# Altium footprint library PCB - CONNECTOR - CUI - CUI SJ-43514.PcbLib: 1 footprints
Each footprint in its own frame and in the unit in brackets; x right, y up, seen from the top. Pads: shape width x height; smd on the part's side, far side on the other; paste and mask are expansions set on the pad; w line width, h text height; cw(c..) or ccw(c..) is an arc to the next point about the centre after c.
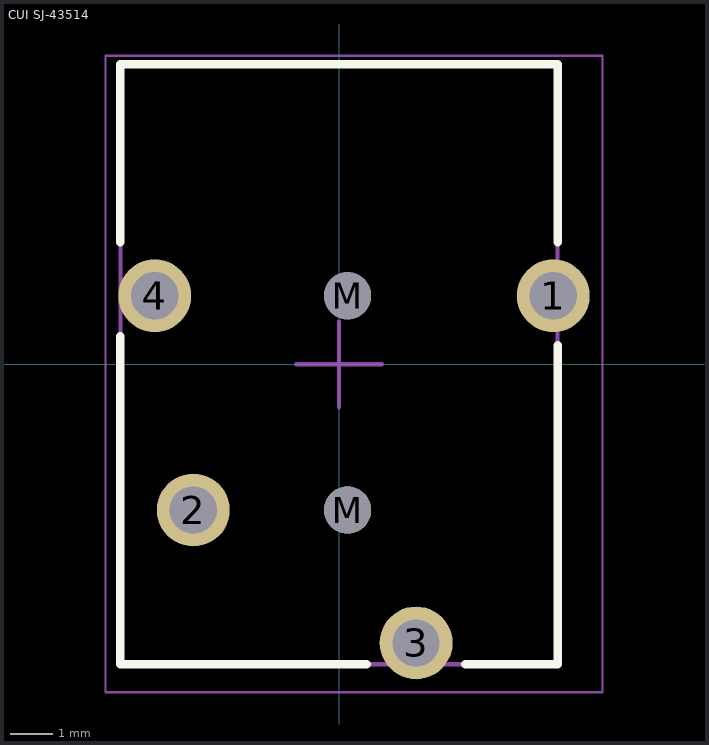
[diagram p0: the footprint, top view; thin cyan lines are the x and y axes]

## CUI SJ-43514 [mm] "3.50mm (0.141\", 1/8\", Mini Plug) - Headphone Phone Jack Stereo (4 Conductor, TRRS) Connector Solder"
height 5
pads (6):
  round 1.7 hole 1.1: 1(5,1.6) 2(-3.4,-3.4) 3(1.8,-6.5) 4(-4.3,1.6)
  round 1.1 hole 1.1 unplated: M(0.2,-3.4) M(0.2,1.6)
Top Overlay:
  lines w0.2: -5.1,0.65 -5.1,-7 0.65,-7 ; -5.1,2.85 -5.1,7 5.1,7 5.1,2.85 ; 2.95,-7 5.1,-7 5.1,0.45
Mechanical 13:
  lines w0.1: -5.1,-7 5.1,-7 5.1,7 -5.1,7 -5.1,-7
Mechanical 15:
  lines w0.05: -5.45,-7.65 6.15,-7.65 6.15,7.2 -5.45,7.2 -5.45,-7.65
  lines w0.1: -1,0 0,0 ; 0,-1 0,0 ; 0,1 0,0 ; 1,0 0,0
3D body "CUI - SJ-43514.step": height 5.25, standoff -2, extent -5.1,-7 5.1,7